# EAGLE library part LTC4416IMS#PBF (library LTC4416IMS_PBF)
Check availability <https://pricing.snapeda.com/parts/LTC4416IMS%23PBF/Analog%20Devices/view-part?ref=eda>
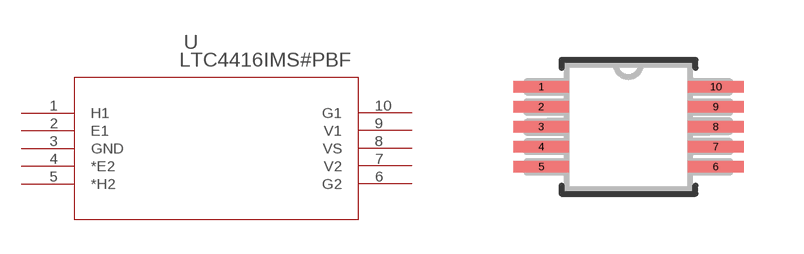
[diagram p0: symbol with the pads of MSOP-10_MS; footprint MSOP-10_MS]

Designator prefix U

## LTC4416IMS#PBF (Availability: In Stock; Description: OR Controller Source Selector Switch P-Channel 2:2 10-MSOP; MF: Analog Devices; MP: LTC4416IMS#PBF; Package: MSOP-10 Linear Technology; Price: None; Purchase-URL: https://pricing.snapeda.com/search/part/LTC4416IMS#PBF/?ref=eda)  [MSOP-10_MS]
1  H1  out
2  E1  in
3  GND  pwr
4  *E2  in
5  *H2  in
6  G2  pas
7  V2  in
8  VS  in
9  V1  in
10  G1  pas

## Footprint MSOP-10_MS (pad centres in mm)
smd 1.397 x 0.279: 1 -2.184,1.001; 2 -2.184,0.5; 3 -2.184,0; 4 -2.184,-0.5; 5 -2.184,-1.001; 6 2.184,-1.001; 7 2.184,-0.5; 8 2.184,0; 9 2.184,0.5; 10 2.184,1.001